# Altium footprint library 3MM_LED.PcbLib: 1 footprints
Each footprint in its own frame and in the unit in brackets; x right, y up, seen from the top. Pads: shape width x height; smd on the part's side, far side on the other; paste and mask are expansions set on the pad; w line width, h text height; cw(c..) or ccw(c..) is an arc to the next point about the centre after c.
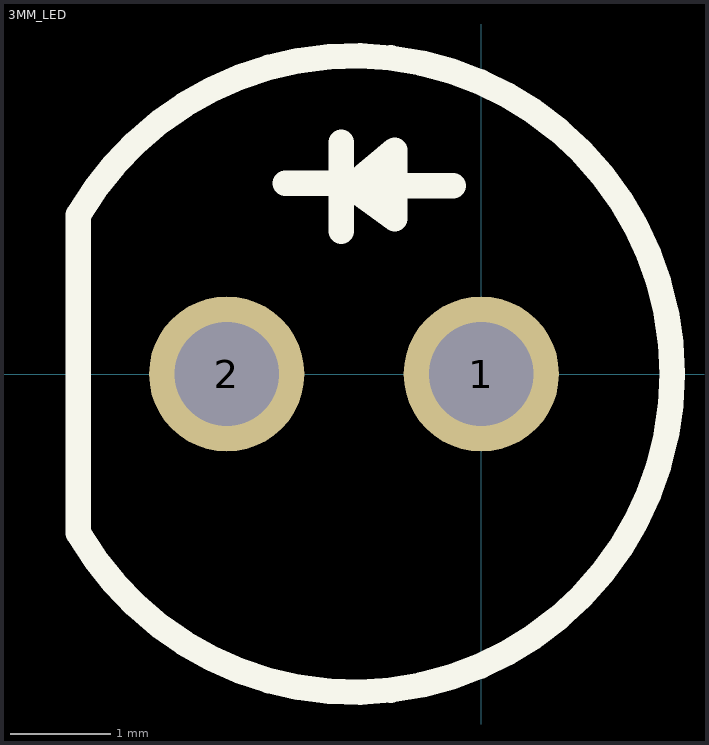
[diagram p0: the footprint, top view; thin cyan lines are the x and y axes]

## 3MM_LED [mil]
pads (2):
  round 61 hole 41: 1(0,0) 2(-100,0)
TopOverlay:
  lines w10: -77,75 -53,75 ; -55,56 -55,91 ; -52,74 -34,61 -34,88 -51,74 -11,74 ; -158.25,-62.5 ccw(c-50,0) -158.25,62.5 -158.25,-62.5
Mechanical4:
  text ".720" at -100,0 h1
  text ".910" at -100.21,-0.01 h1
  text ".250" at -100,0 h1
3D body: height 339.18, standoff -243.49, extent -146.09,-118.48 67.3,118.51